# EAGLE library part AT25256A (library machine_science)
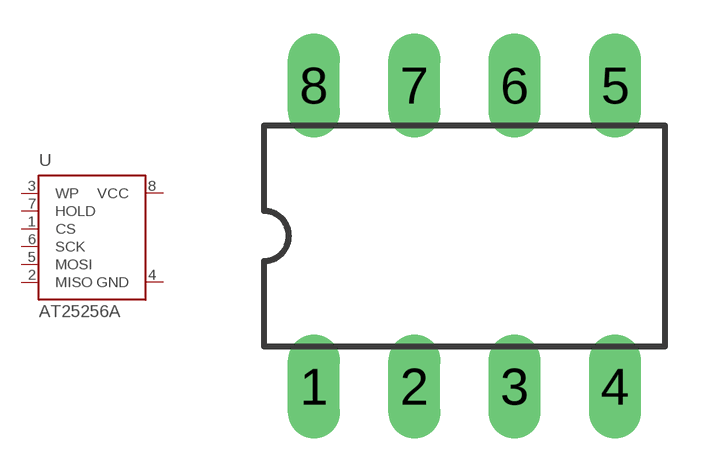
[diagram p17: symbol with the pads of DIL08; footprint DIL08]

Designator prefix -

## AT25256A  [DIL08]
1  CS
2  MISO
3  WP
4  GND  pwr
5  MOSI
6  SCK
7  HOLD
8  VCC  pwr

## Footprint DIL08 (pad centres in mm)
Dual In Line
drill 0.813 long: 1 -3.81,-3.81; 2 -1.27,-3.81; 3 1.27,-3.81; 4 3.81,-3.81; 5 3.81,3.81; 6 1.27,3.81; 7 -1.27,3.81; 8 -3.81,3.81